# Altium schematic symbol library FT232RQ.Schlib: 1 symbol
Pins are listed as number, name and electrical type; pins without a type are passive.

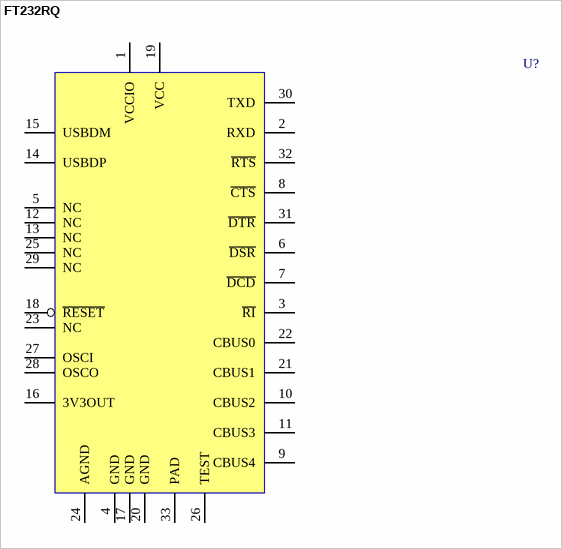
[diagram p0: symbol FT232RQ]

## FT232RQ
designator U?
pins: 1 VCCIO (power), 2 RXD, 3 ~{RI}, 4 GND (power), 5 NC, 6 ~{DSR}, 7 ~{DCD}, 8 ~{CTS}, 9 CBUS4, 10 CBUS2, 11 CBUS3, 12 NC, 13 NC, 14 USBDP, 15 USBDM, 16 3V3OUT, 17 GND (power), 18 ~{RESET}, 19 VCC (power), 20 GND (power), 21 CBUS1, 22 CBUS0, 23 NC, 24 AGND (power), 25 NC, 26 TEST, 27 OSCI, 28 OSCO, 29 NC, 30 TXD, 31 ~{DTR}, 32 ~{RTS}, 33 PAD